# EAGLE library part 10104111-0001LF (library KVB-connectors)
USB - micro AB USB 2.0 Receptacle Connector 5 Position Surface Mount Right Angle
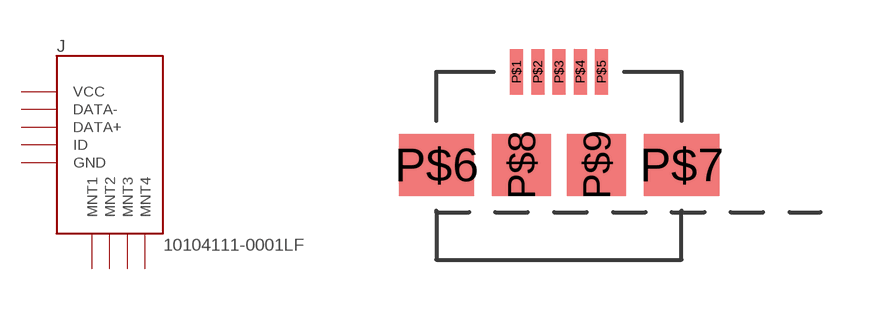
[diagram p9: symbol with the pads of 10104111-0001LF; footprint 10104111-0001LF]

Designator prefix J

## 10104111-0001LF (MAN-PART_NUM: 10104111-0001LF; MANUFACTURER: Amphenol)  [10104111-0001LF]
P$1  VCC
P$2  DATA-
P$3  DATA+
P$4  ID
P$5  GND
P$6  MNT1
P$7  MNT2
P$8  MNT3
P$9  MNT4

## Footprint 10104111-0001LF (pad centres in mm)
smd 0.4 x 1.4: P$1 -1.3,0; P$2 -0.65,0; P$3 0,0; P$4 0.65,0; P$5 1.3,0
smd 2.3 x 1.9: P$6 -3.75,-2.85; P$7 3.75,-2.85
smd 1.8 x 1.9: P$8 -1.15,-2.85; P$9 1.15,-2.85